# EAGLE library part WE-PSPA_1006 (library inductor-wurth-automotive)
WE-PSPA Push Pull & Gate Drive Transformer Characteristics Surface mount AEC-Q200 Variety of turn ratios Output voltages from 5 V up to 23 V Operating temperature:-40 °C up to +125 ºC Automotive approved Applications As a Gate Drive Transformator Transformator for Push Pull DC/DC Converter For isolated interfaces RS 485, CAN <https://www.we-online.com/components/media/o718702v209%20family-we-pspa-78931812xxx.jpg> Details see: www.we-online.com/components/products/WE-PSPA_PUSH_PULL_TRANSFORMER <www.we-online.com/catalog/WE-PSPA_PUSH_PULL_TRANSFORMER/?utm_source=eagle_model&utm_medium=description_link&utm_campaign=eisos_eagle> Updated by Ella 2025-01-16 2025(C) Wurth Elektronik
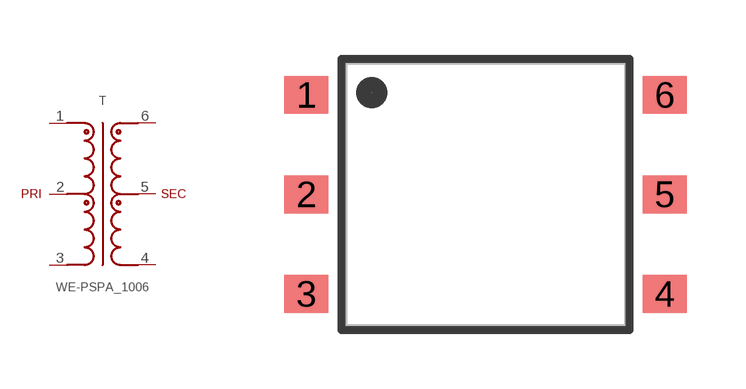
[diagram p0: symbol with the pads of WE-PSPA_1006; footprint WE-PSPA_1006]

Designator prefix T

## WE-PSPA_1006_78931610305 (DATASHEET-URL: https://www.we-online.com/redexpert/spec/78931610305?ae; HEIGHT: 4.74mm; IOUT1: 350mA; L: 475uH; LENGTH: 10.46mm; LS: 500nH; MOUNT: SMT; N: 1:1.69; PART-NUMBER: 78931610305; RDC1: 145ohm; RDC2: 145ohm; RDC3: 210ohm; RDC4: 210ohm; SIZE: 1006; TEST-CONDITION-N: (1-3) : (6-4); VALUE: 1:1.69; VIN: 3.3V; VOLTAGE-TIME: 11Vus; VOUT1: 5V; VT: 2500V(AC); WIDTH: 6.73mm), WE-PSPA_1006_78931610306 (DATASHEET-URL: https://www.we-online.com/redexpert/spec/78931610306?ae; HEIGHT: 4.74mm; IOUT1: 350mA; L: 475uH; LENGTH: 10.46mm; LS: 500nH; MOUNT: SMT; N: 1:2; PART-NUMBER: 78931610306; RDC1: 145ohm; RDC2: 145ohm; RDC3: 240ohm; RDC4: 240ohm; SIZE: 1006; TEST-CONDITION-N: (1-3) : (6-4); VALUE: 1:2; VIN: 3.3V; VOLTAGE-TIME: 11Vus; VOUT1: 5V; VT: 2500V(AC); WIDTH: 6.73mm), WE-PSPA_1006_78931610503 (DATASHEET-URL: https://www.we-online.com/redexpert/spec/78931610503?ae; HEIGHT: 4.74mm; IOUT1: 350mA; L: 475uH; LENGTH: 10.46mm; LS: 500nH; MOUNT: SMT; N: 1:1.23; PART-NUMBER: 78931610503; RDC1: 135ohm; RDC2: 135ohm; RDC3: 155ohm; RDC4: 155ohm; SIZE: 1006; TEST-CONDITION-N: (1-3) : (6-4); VALUE: 1:1.23; VIN: 5V; VOLTAGE-TIME: 11Vus; VOUT1: 3.3V; VT: 2500V(AC); WIDTH: 6.73mm), WE-PSPA_1006_78931610505 (DATASHEET-URL: https://www.we-online.com/redexpert/spec/78931610505?ae; HEIGHT: 4.74mm; IOUT1: 350mA; L: 475uH; LENGTH: 10.46mm; LS: 500nH; MOUNT: SMT; N: 1:1.15; PART-NUMBER: 78931610505; RDC1: 140ohm; RDC2: 140ohm; RDC3: 150ohm; RDC4: 150ohm; SIZE: 1006; TEST-CONDITION-N: (1-3) : (6-4); VALUE: 1:1.15; VIN: 5V; VOLTAGE-TIME: 11Vus; VOUT1: 5V; VT: 2500V(AC); WIDTH: 6.73mm), WE-PSPA_1006_78931610506 (DATASHEET-URL: https://www.we-online.com/redexpert/spec/78931610506?ae; HEIGHT: 4.74mm; IOUT1: 350mA; L: 475uH; LENGTH: 10.46mm; LS: 500nH; MOUNT: SMT; N: 1:1.31; PART-NUMBER: 78931610506; RDC1: 135ohm; RDC2: 135ohm; RDC3: 160ohm; RDC4: 160ohm; SIZE: 1006; TEST-CONDITION-N: (1-3) : (6-4); VALUE: 1:1.31; VIN: 5V; VOLTAGE-TIME: 11Vus; VOUT1: 5V; VT: 2500V(AC); WIDTH: 6.73mm), WE-PSPA_1006_78931610512 (DATASHEET-URL: https://www.we-online.com/redexpert/spec/78931610512?ae; HEIGHT: 4.74mm; IOUT1: 150mA; L: 475uH; LENGTH: 10.46mm; LS: 500nH; MOUNT: SMT; N: 1:2.54; PART-NUMBER: 78931610512; RDC1: 165ohm; RDC2: 165ohm; RDC3: 335ohm; RDC4: 335ohm; SIZE: 1006; TEST-CONDITION-N: (1-3) : (6-4); VALUE: 1:2.54; VIN: 5V; VOLTAGE-TIME: 11Vus; VOUT1: 12V; VT: 2500V(AC); WIDTH: 6.73mm), WE-PSPA_1006_78931610515 (DATASHEET-URL: https://www.we-online.com/redexpert/spec/78931610515?ae; HEIGHT: 4.74mm; IOUT1: 115mA; L: 475uH; LENGTH: 10.46mm; LS: 500nH; MOUNT: SMT; N: 1:3.15; PART-NUMBER: 78931610515; RDC1: 155ohm; RDC2: 155ohm; RDC3: 635ohm; RDC4: 635ohm; SIZE: 1006; TEST-CONDITION-N: (1-3) : (6-4); VALUE: 1:3.15; VIN: 5V; VOLTAGE-TIME: 11Vus; VOUT1: 15V; VT: 2500V(AC); WIDTH: 6.73mm), WE-PSPA_1006_78931610518 (DATASHEET-URL: https://www.we-online.com/redexpert/spec/78931610518?ae; HEIGHT: 4.74mm; IOUT1: 100mA; L: 475uH; LENGTH: 10.46mm; LS: 500nH; MOUNT: SMT; N: 1:3.77; PART-NUMBER: 78931610518; RDC1: 160ohm; RDC2: 160ohm; RDC3: 775ohm; RDC4: 775ohm; SIZE: 1006; TEST-CONDITION-N: (1-3) : (6-4); VALUE: 1:3.77; VIN: 5V; VOLTAGE-TIME: 11Vus; VOUT1: 18V; VT: 2500V(AC); WIDTH: 6.73mm)  [WE-PSPA_1006]
1  1  pas
2  2  pas
3  3  pas
4  4  pas
5  5  pas
6  6  pas

## Footprint WE-PSPA_1006 (pad centres in mm)
WE-PSPA Push Pull & Gate Drive Transformer Size: 1006, SMT, 6pins LxWxH=10.46x6.73x4.74mm
smd 1.12 x 0.96: 1 -4.57,2.54; 2 -4.57,0; 3 -4.57,-2.54; 4 4.57,-2.54; 5 4.57,0; 6 4.57,2.54